# EAGLE library part ADA-SOUNDFX (library IowaFormula)
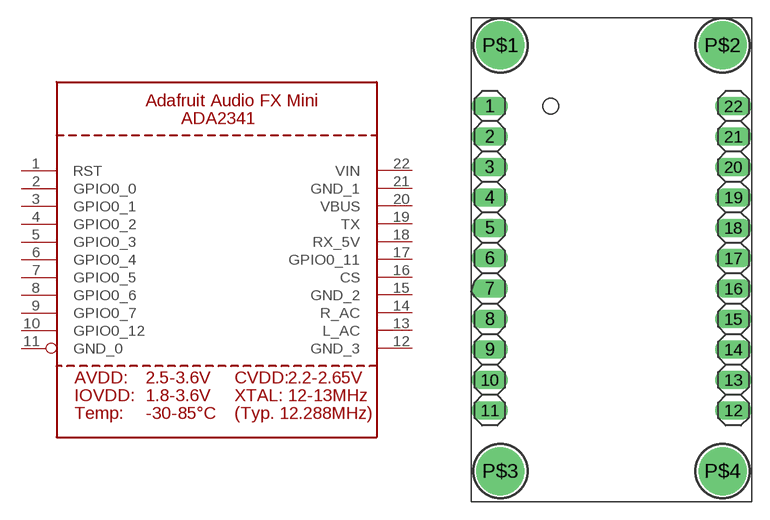
[diagram p3: symbol with the pads of ADA-SOUNDFX; footprint ADA-SOUNDFX]

Designator prefix -

## ADA-SOUNDFX  [ADA-SOUNDFX]
1  RST
2  GPIO0_0
3  GPIO0_1
4  GPIO0_2
5  GPIO0_3
6  GPIO0_4
7  GPIO0_5
8  GPIO0_6
9  GPIO0_7
10  GPIO0_12
11  GND_0  sup
12  GND_3  sup
13  L_AC
14  R_AC
15  GND_2
16  CS
17  GPIO0_11
18  RX_5V
19  TX
20  VBUS
21  GND_1  sup
22  VIN  sup

## Footprint ADA-SOUNDFX (pad centres in mm)
drill 1.016 long: 1 0,25.4; 2 0,22.86; 3 0,20.32; 4 0,17.78; 5 0,15.24; 6 0,12.7; 7 0,10.16; 8 0,7.62; 9 0,5.08; 10 0,2.54; 11 0,0; 12 20.32,0; 13 20.32,2.54; 14 20.32,5.08; 15 20.32,7.62; 16 20.32,10.16; 17 20.32,12.7; 18 20.32,15.24; 19 20.32,17.78; 20 20.32,20.32; 21 20.32,22.86; 22 20.32,25.4
drill 2.5 pad 4: P$1 0.889,30.48; P$2 19.431,30.48; P$3 0.889,-5.08; P$4 19.431,-5.08